# EAGLE library part RFM23BP (library RFM23BP)
HopeRF RFM23BP Library by: http://projects.weber-itam.de
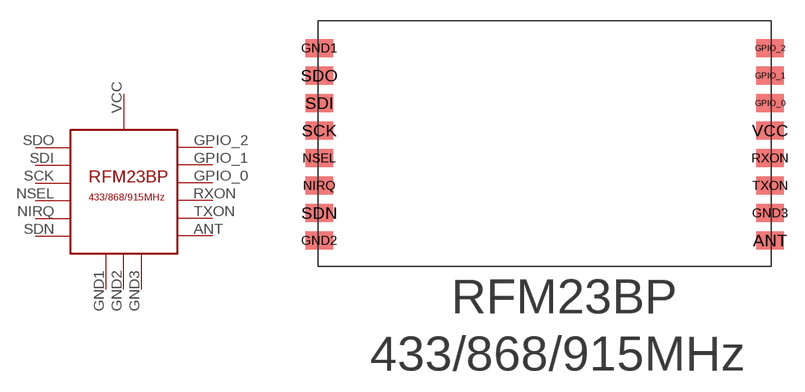
[diagram p0: symbol with the pads of RFM23BP; footprint RFM23BP]

Designator prefix -

## RFM23BP  [RFM23BP]
ANT  ANT
GND1  GND1  pwr
GND2  GND2  pwr
GND3  GND3  pwr
GPIO_0  GPIO_0
GPIO_1  GPIO_1
GPIO_2  GPIO_2
NIRQ  NIRQ
NSEL  NSEL
RXON  RXON
SCK  SCK
SDI  SDI
SDN  SDN
SDO  SDO
TXON  TXON
VCC  VCC  pwr

## Footprint RFM23BP (pad centres in mm)
smd 2 x 1.3: ANT 16.9,-7.5; GND1 -15.9,6.5; GND2 -15.9,-7.5; GND3 16.9,-5.5; GPIO_0 16.9,2.5; GPIO_1 16.9,4.5; GPIO_2 16.9,6.5; NIRQ -15.9,-3.5; NSEL -15.9,-1.5; RXON 16.9,-1.5; SCK -15.9,0.5; SDI -15.9,2.5; SDN -15.9,-5.5; SDO -15.9,4.5; TXON 16.9,-3.5; VCC 16.9,0.5